# Altium schematic symbol library TRANS-PNP.SCHLIB: 1 symbol
Pins are listed as number, name and electrical type; pins without a type are passive.

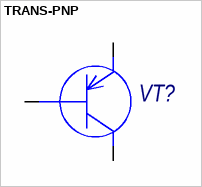
[diagram p0: symbol TRANS-PNP]

## TRANS-PNP
designator VT?
pins: 1 B, 2 E, 3 C